# Altium footprint library КП-1.PcbLib: 1 footprints
Each footprint in its own frame and in the unit in brackets; x right, y up, seen from the top. Pads: shape width x height; smd on the part's side, far side on the other; paste and mask are expansions set on the pad; w line width, h text height; cw(c..) or ccw(c..) is an arc to the next point about the centre after c.
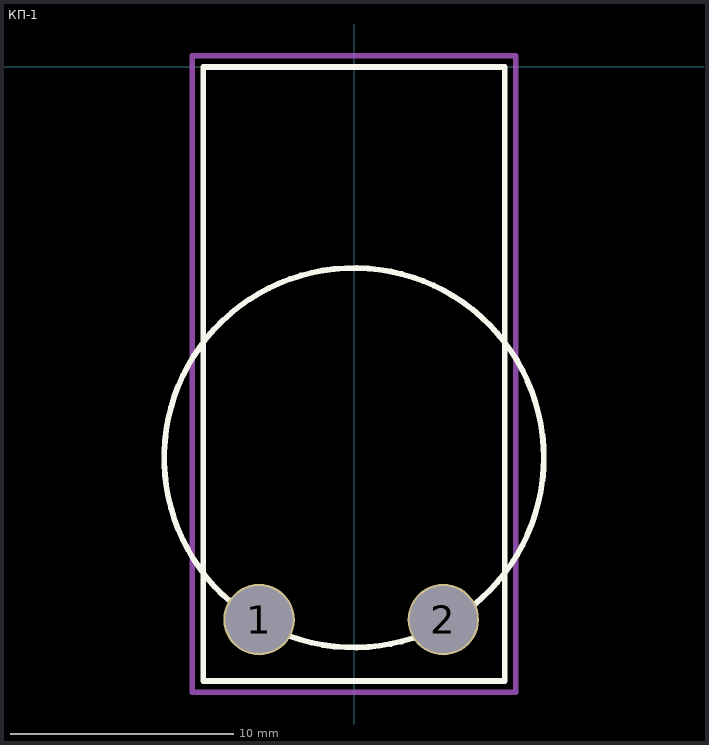
[diagram p0: the footprint, top view; thin cyan lines are the x and y axes]

## КП-1 [mm]
pads (2):
  round 3.2 hole 3: 1(-4.25,-24.75) 2(4,-24.75)
Top Overlay:
  circle w0.254: c0,-17.5 r8.5
  lines w0.254: -6.75,-27.5 -6.75,0 6.75,0 6.75,-27.5 -6.75,-27.5
Bottom Overlay:
  lines w0.254: -6.75,-9.5 -2.5,-1.25 cw(c0,-3.75) 2.5,-1.25 6.75,-9
Mechanical 1:
  lines w0.254: -7.25,-28 7.25,-28 7.25,0.5 -7.25,0.5 -7.25,-28